# Altium schematic symbol library XCARD_Adapter.SchLib: 1 symbol
Pins are listed as number, name and electrical type; pins without a type are passive.

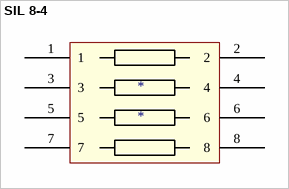
[diagram p0: symbol SIL 8-4]

## SIL 8-4
designator *
footprint SIL8
pins: 1, 2, 3, 4, 5, 6, 7, 8